# Altium footprint library BB.001.00.00.PcbLib: 93 footprints (part 3 of 6)
Each footprint in its own frame and in the unit in brackets; x right, y up, seen from the top. Pads: shape width x height; smd on the part's side, far side on the other; paste and mask are expansions set on the pad; w line width, h text height; cw(c..) or ccw(c..) is an arc to the next point about the centre after c.
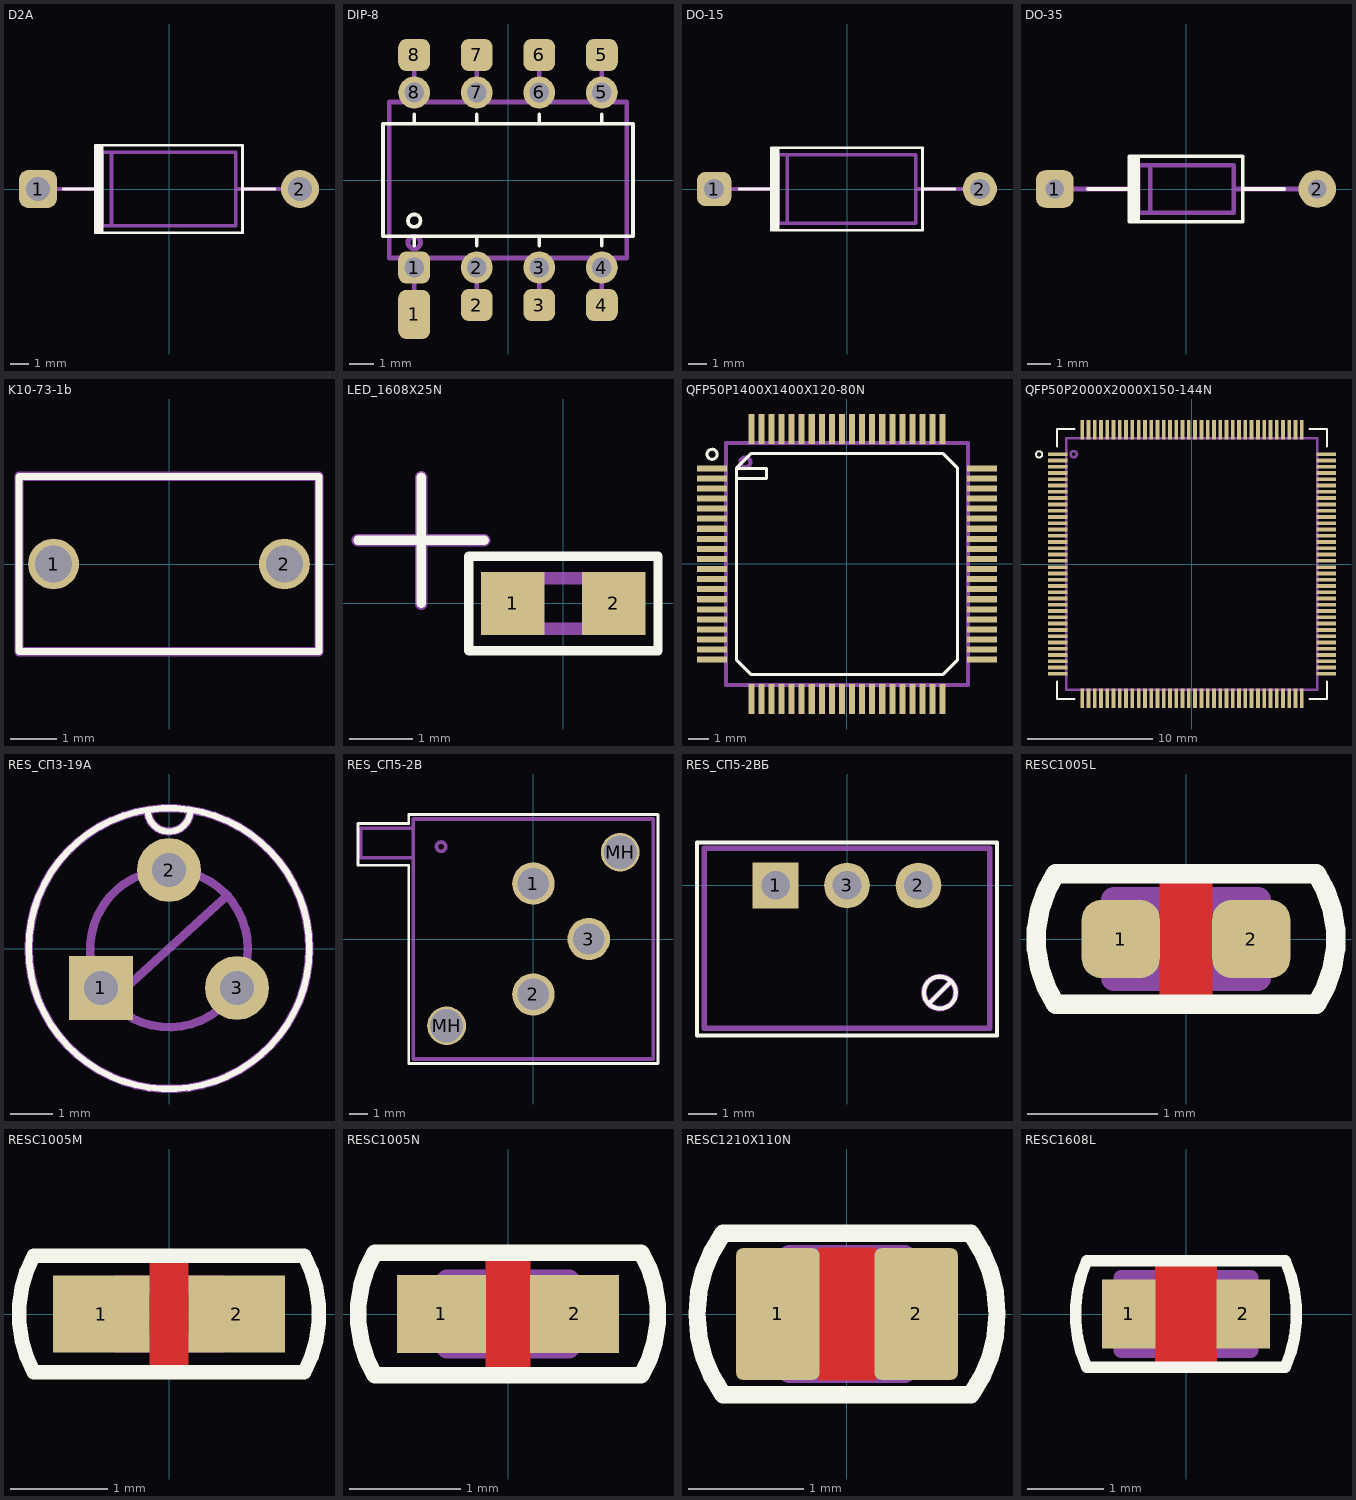
[diagram p2: the footprints below, top view; thin cyan lines are the x and y axes]

## D2A [mm]
height 6.1
pads (2):
  rrect50% 2.1x2.1 hole 1.3: 1(-7.239,0)
  round 2.1 hole 1.3: 2(7.239,0)
Top Overlay:
  rectangle: -4.064,-2.413 -3.683,2.413
  lines w0.15: -5.842,0 -4.064,0 ; -3.683,-2.413 -3.683,2.413 ; 4.064,0 5.842,0 ; -4.064,-2.413 -4.064,2.413 4.064,2.413 4.064,-2.413 -4.064,-2.413
TopAsy:
  lines w0.2: -7.239,0 -3.683,0 ; -3.175,-2.032 -3.175,2.032 ; 3.683,0 7.239,0 ; -3.683,-2.032 -3.683,2.032 3.683,2.032 3.683,-2.032 -3.683,-2.032

## DIP-8 [mm]
height 4.7
pads (16):
  rrect50% 1.3x2 all layers, no hole: 1(-3.81,-5.461)
  rrect50% 1.3x1.3 / inner rrect50% 1.3x1.3 / far side rrect50% 1.6x1.6 hole 0.8: 1(-3.81,-3.556)
  rrect50% 1.3x1.3 all layers, no hole: 2(-1.27,-5.08) 3(1.27,-5.08) 4(3.81,-5.08) 5(3.81,5.08) 6(1.27,5.08) 7(-1.27,5.08) 8(-3.81,5.08)
  round 1.3 / inner round 1.3 / far side round 1.6 hole 0.8: 2(-1.27,-3.556) 3(1.27,-3.556) 4(3.81,-3.556) 5(3.81,3.556) 6(1.27,3.556) 7(-1.27,3.556) 8(-3.81,3.556)
Top Overlay:
  circle w0.15: c-3.81,-1.651 r0.254
  lines w0.15: -3.81,-2.667 -3.81,-2.286 ; -3.81,2.286 -3.81,2.667 ; -1.27,-2.667 -1.27,-2.286 ; -1.27,2.286 -1.27,2.667 ; 1.27,-2.667 1.27,-2.286 ; 1.27,2.286 1.27,2.667 ; 3.81,-2.667 3.81,-2.286 ; 3.81,2.286 3.81,2.667 ; -5.08,-2.286 -5.08,2.286 5.08,2.286 5.08,-2.286 -5.08,-2.286
TopAsy:
  circle w0.2: c-3.81,-2.54 r0.254
  lines w0.2: -3.81,-4.826 -3.81,-3.175 ; -3.81,3.175 -3.81,4.826 ; -1.27,-4.826 -1.27,-3.175 ; -1.27,3.175 -1.27,4.826 ; 1.27,-4.826 1.27,-3.175 ; 1.27,3.175 1.27,4.826 ; 3.81,-4.826 3.81,-3.175 ; 3.81,3.175 3.81,4.826 ; -4.826,-3.175 4.826,-3.175 4.826,3.175 -4.826,3.175 -4.826,-3.175

## DO-15 [mm]
height 5.6
pads (2):
  rrect50% 1.9x1.9 hole 1.1: 1(-7.366,0)
  round 1.9 hole 1.1: 2(7.366,0)
Top Overlay:
  rectangle: -4.191,-2.286 -3.81,2.286
  lines w0.15: -5.969,0 -4.191,0 ; -3.81,-2.286 -3.81,2.286 ; 4.191,0 5.969,0 ; -4.191,-2.286 -4.191,2.286 4.191,2.286 4.191,-2.286 -4.191,-2.286
TopAsy:
  lines w0.2: -7.366,0 -3.81,0 ; -3.302,-1.905 -3.302,1.905 ; 3.81,0 7.366,0 ; -3.81,-1.905 -3.81,1.905 3.81,1.905 3.81,-1.905 -3.81,-1.905

## DO-35 [mm]
height 3.5
pads (2):
  rrect50% 1.6x1.6 hole 0.8: 1(-5.588,0)
  round 1.6 hole 0.8: 2(5.588,0)
Top Overlay:
  rectangle: -2.413,-1.397 -2.032,1.397
  lines w0.15: -4.191,0 -2.413,0 ; -2.032,-1.397 -2.032,1.397 ; 2.413,0 4.191,0 ; -2.413,-1.397 -2.413,1.397 2.413,1.397 2.413,-1.397 -2.413,-1.397
TopAsy:
  lines w0.2: -5.588,0 -2.032,0 ; -1.524,-1.016 -1.524,1.016 ; 2.032,0 5.588,0 ; -2.032,-1.016 -2.032,1.016 2.032,1.016 2.032,-1.016 -2.032,-1.016

## K10-73-1b [mm] "Керамический конденсатор"
height 8
pads (2):
  round 1.1 hole 0.8: 1(-2.5,0) 2(2.5,0)
Top Overlay:
  lines w0.15: -3.25,-1.9 3.25,-1.9 3.25,1.9 -3.25,1.9 -3.25,-1.9
TopAsy:
  lines w0.2: -3.25,-1.9 -3.25,1.9 3.25,1.9 3.25,-1.9 -3.25,-1.9
3D body "K10-73.STEP": height 8.01, standoff -4.99, extent -3.25,-1.9 3.25,1.9

## LED_1608X25N [mm] "Chip LED lamp, 2-Leads, Body 1,60x0,80mm, IPC Medium Density"
height 0.25
pads (2):
  rect 1x1 smd: 1(-0.8,0) 2(0.8,0)
Top Overlay:
  lines w0.15: -3.25,1 -1.25,1 ; -2.25,0 -2.25,2 ; -1.5,-0.75 -1.5,0.75 1.5,0.75 1.5,-0.75 -1.5,-0.75
TopAsy:
  lines w0.2: -3.25,1 -1.25,1 ; -2.25,0 -2.25,2 ; -0.8,-0.4 -0.8,0.4 0.8,0.4 0.8,-0.4 -0.8,-0.4
3D body "cled.STEP": height 0.62, standoff 0.02, extent -0.8,-0.4 0.8,0.4

## QFP50P1400X1400X120-80N [mm] "QFP, 80-Leads, Body 14,00x14,00mm, Pitch 0,50mm, IPC Medium Density"
height 1.2
pads (80):
  rect 1.5x0.3 smd mask+0.01: 1(-6.7,4.75) 2(-6.7,4.25) 3(-6.7,3.75) 4(-6.7,3.25) 5(-6.7,2.75) 6(-6.7,2.25) 7(-6.7,1.75) 8(-6.7,1.25) 9(-6.7,0.75) 10(-6.7,0.25) 11(-6.7,-0.25) 12(-6.7,-0.75) 13(-6.7,-1.25) 14(-6.7,-1.75) 15(-6.7,-2.25) 16(-6.7,-2.75) 17(-6.7,-3.25) 18(-6.7,-3.75) 19(-6.7,-4.25) 20(-6.7,-4.75) 41(6.7,-4.75) 42(6.7,-4.25) 43(6.7,-3.75) 44(6.7,-3.25) 45(6.7,-2.75) 46(6.7,-2.25) 47(6.7,-1.75) 48(6.7,-1.25) 49(6.7,-0.75) 50(6.7,-0.25) 51(6.7,0.25) 52(6.7,0.75) 53(6.7,1.25) 54(6.7,1.75) 55(6.7,2.25) 56(6.7,2.75) 57(6.7,3.25) 58(6.7,3.75) 59(6.7,4.25) 60(6.7,4.75)
  rect 0.3x1.5 smd mask+0.01: 21(-4.75,-6.7) 22(-4.25,-6.7) 23(-3.75,-6.7) 24(-3.25,-6.7) 25(-2.75,-6.7) 26(-2.25,-6.7) 27(-1.75,-6.7) 28(-1.25,-6.7) 29(-0.75,-6.7) 30(-0.25,-6.7) 31(0.25,-6.7) 32(0.75,-6.7) 33(1.25,-6.7) 34(1.75,-6.7) 35(2.25,-6.7) 36(2.75,-6.7) 37(3.25,-6.7) 38(3.75,-6.7) 39(4.25,-6.7) 40(4.75,-6.7) 61(4.75,6.7) 62(4.25,6.7) 63(3.75,6.7) 64(3.25,6.7) 65(2.75,6.7) 66(2.25,6.7) 67(1.75,6.7) 68(1.25,6.7) 69(0.75,6.7) 70(0.25,6.7) 71(-0.25,6.7) 72(-0.75,6.7) 73(-1.25,6.7) 74(-1.75,6.7) 75(-2.25,6.7) 76(-2.75,6.7) 77(-3.25,6.7) 78(-3.75,6.7) 79(-4.25,6.7) 80(-4.75,6.7)
Top Overlay:
  circle w0.15: c-6.7,5.45 r0.25
  lines w0.15: -5.5,4.25 -4,4.25 -4,4.75 -5.5,4.75 ; -5.5,4.75 -4.75,5.5 4.75,5.5 5.5,4.75 5.5,-4.75 4.75,-5.5 -4.75,-5.5 -5.5,-4.75 -5.5,4.75
TopAsy:
  circle w0.2: c-5.05,5.05 r0.25
  lines w0.2: -6,-6 6,-6 6,6 -6,6 -6,-6
Mechanical 3:
  circle w0.2: c-5.05,5.05 r0.25
  lines w0.2: -6,-6 -6,6 6,6 6,-6 -6,-6
3D body "User Library-TQFP-80.STEP": height 1.06, standoff 0, extent -7,-7 7,7

## QFP50P2000X2000X150-144N [mm] "Package: TQFP,L; body: 20x20x1,6mm"
height 1.6
pads (144):
  rect 1.55x0.3 smd mask+0.01: 1(-10.7,8.75) 2(-10.7,8.25) 3(-10.7,7.75) 4(-10.7,7.25) 5(-10.7,6.75) 6(-10.7,6.25) 7(-10.7,5.75) 8(-10.7,5.25) 9(-10.7,4.75) 10(-10.7,4.25) 11(-10.7,3.75) 12(-10.7,3.25) 13(-10.7,2.75) 14(-10.7,2.25) 15(-10.7,1.75) 16(-10.7,1.25) 17(-10.7,0.75) 18(-10.7,0.25) 19(-10.7,-0.25) 20(-10.7,-0.75) 21(-10.7,-1.25) 22(-10.7,-1.75) 23(-10.7,-2.25) 24(-10.7,-2.75) 25(-10.7,-3.25) 26(-10.7,-3.75) 27(-10.7,-4.25) 28(-10.7,-4.75) 29(-10.7,-5.25) 30(-10.7,-5.75) 31(-10.7,-6.25) 32(-10.7,-6.75) 33(-10.7,-7.25) 34(-10.7,-7.75) 35(-10.7,-8.25) 36(-10.7,-8.75) 73(10.7,-8.75) 74(10.7,-8.25) 75(10.7,-7.75) 76(10.7,-7.25) 77(10.7,-6.75) 78(10.7,-6.25) 79(10.7,-5.75) 80(10.7,-5.25) 81(10.7,-4.75) 82(10.7,-4.25) 83(10.7,-3.75) 84(10.7,-3.25) 85(10.7,-2.75) 86(10.7,-2.25) 87(10.7,-1.75) 88(10.7,-1.25) 89(10.7,-0.75) 90(10.7,-0.25) 91(10.7,0.25) 92(10.7,0.75) 93(10.7,1.25) 94(10.7,1.75) 95(10.7,2.25) 96(10.7,2.75) 97(10.7,3.25) 98(10.7,3.75) 99(10.7,4.25) 100(10.7,4.75) 101(10.7,5.25) 102(10.7,5.75) 103(10.7,6.25) 104(10.7,6.75) 105(10.7,7.25) 106(10.7,7.75) 107(10.7,8.25) 108(10.7,8.75)
  rect 0.3x1.55 smd mask+0.01: 37(-8.75,-10.7) 38(-8.25,-10.7) 39(-7.75,-10.7) 40(-7.25,-10.7) 41(-6.75,-10.7) 42(-6.25,-10.7) 43(-5.75,-10.7) 44(-5.25,-10.7) 45(-4.75,-10.7) 46(-4.25,-10.7) 47(-3.75,-10.7) 48(-3.25,-10.7) 49(-2.75,-10.7) 50(-2.25,-10.7) 51(-1.75,-10.7) 52(-1.25,-10.7) 53(-0.75,-10.7) 54(-0.25,-10.7) 55(0.25,-10.7) 56(0.75,-10.7) 57(1.25,-10.7) 58(1.75,-10.7) 59(2.25,-10.7) 60(2.75,-10.7) 61(3.25,-10.7) 62(3.75,-10.7) 63(4.25,-10.7) 64(4.75,-10.7) 65(5.25,-10.7) 66(5.75,-10.7) 67(6.25,-10.7) 68(6.75,-10.7) 69(7.25,-10.7) 70(7.75,-10.7) 71(8.25,-10.7) 72(8.75,-10.7) 109(8.75,10.7) 110(8.25,10.7) 111(7.75,10.7) 112(7.25,10.7) 113(6.75,10.7) 114(6.25,10.7) 115(5.75,10.7) 116(5.25,10.7) 117(4.75,10.7) 118(4.25,10.7) 119(3.75,10.7) 120(3.25,10.7) 121(2.75,10.7) 122(2.25,10.7) 123(1.75,10.7) 124(1.25,10.7) 125(0.75,10.7) 126(0.25,10.7) 127(-0.25,10.7) 128(-0.75,10.7) 129(-1.25,10.7) 130(-1.75,10.7) 131(-2.25,10.7) 132(-2.75,10.7) 133(-3.25,10.7) 134(-3.75,10.7) 135(-4.25,10.7) 136(-4.75,10.7) 137(-5.25,10.7) 138(-5.75,10.7) 139(-6.25,10.7) 140(-6.75,10.7) 141(-7.25,10.7) 142(-7.75,10.7) 143(-8.25,10.7) 144(-8.75,10.7)
Top Overlay:
  circle w0.15: c-12.178,8.731 r0.25
  lines w0.15: -10.75,-9.375 -10.75,-10.75 -9.375,-10.75 ; -10.75,9.375 -10.75,10.75 -9.375,10.75 ; 9.375,-10.75 10.75,-10.75 10.75,-9.375 ; 9.375,10.75 10.75,10.75 10.75,9.375
TopAsy:
  circle w0.2: c-9.428,8.75 r0.25
  lines w0.2: -10,-10 10,-10 10,10 -10,10 -10,-10
3D body "User Library-LQFP144-2.stp": height 1.6, standoff 0, extent -11.075,-11.075 11.075,11.075

## RES_CП3-19А [mm] "Переменный непроволочный подстроечный резистор d=6.3"
height 4.1
pads (3):
  rect 1.5x1.5 hole 0.8: 1(-1.6,-0.925)
  round 1.5 hole 0.8: 2(0,1.845) 3(1.6,-0.925)
Top Overlay:
  circle w0.15: c0,0 r3.3
  lines w0.15: -0.5,3.25 ccw(c0,3.25) 0.5,3.25
TopAsy:
  circle w0.2: c0,0 r1.85
  circle w0.2: c0,0 r3.3
  lines w0.2: -1.375,-1.25 1.375,1.25 ; -0.5,3.25 ccw(c0,3.25) 0.5,3.25
3D body "СП3-19А.stp": height 4.11, standoff -19.49, extent -3.15,-3.144 3.125,3.144

## RES_СП5-2В [mm] "РЕЗИСТОР ПЕРЕМЕННЫЙПРОВОЛОЧНЫЙ ПОДСТРОЕЧНЫЙ"
height 7.9
pads (5):
  round 2.3 hole 1.7: 1(0,3) 2(0,-3) 3(3,0)
  round 2.1 hole 1.8: MH(-4.7,-4.7) MH(4.7,4.7)
Top Overlay:
  lines w0.15: -9.5,4 -9.5,6.25 -6.75,6.25 -6.75,6.75 6.75,6.75 6.75,-6.75 -6.75,-6.75 -6.75,4 -9.5,4
TopAsy:
  circle w0.2: c-5,5 r0.25
  circle w0.2: c-4.7,-4.7 r0.9
  circle w0.2: c4.7,4.7 r0.9
  lines w0.2: -6.5,4.4 -9.35,4.4 -9.35,6 -6.5,6 ; -6.5,-6.5 6.5,-6.5 6.5,6.5 -6.5,6.5 -6.5,-6.5
3D body "СП5-2В.stp": height 7.91, standoff -4.99, extent -9.35,-6.5 6.5,6.5

## RES_СП5-2ВБ [mm] "РЕЗИСТОР ПЕРЕМЕННЫЙПРОВОЛОЧНЫЙ ПОДСТРОЕЧНЫЙ"
height 12
pads (3):
  rect 1.6x1.6 hole 1: 1(-2.5,0)
  round 1.6 hole 1: 2(2.5,0) 3(0,0)
Top Overlay:
  circle w0.15: c3.25,-3.75 r0.559
  lines w0.15: 2.9,-4.1 3.6,-3.4 ; -5.25,-5.25 -5.25,1.5 5.25,1.5 5.25,-5.25 -5.25,-5.25
TopAsy:
  circle w0.2: c3.25,-3.75 r0.559
  lines w0.2: 2.9,-4.1 3.6,-3.4 ; -5,-5 -5,1.3 5,1.3 5,-5 -5,-5
3D body "СП5-2ВБ.STEP": height 11.41, standoff -3.99, extent -5.003,-5 5.003,1.3

## RESC1005L [mm] "Chip Resistor, Body 1.1x0.5mm, IPC High Density"
height 0.4
pads (2):
  rrect50% 0.6x0.6 smd: 1(-0.5,0) 2(0.5,0)
Top Layer:
  pour cut-out: -0.2,0.5 -0.2,-0.5 0.2,-0.5 0.2,0.5
Top Overlay:
  lines w0.15: -1,-0.5 cw(c-0.242,0) -1,0.5 1,0.5 cw(c0.242,0) 1,-0.5 -1,-0.5
TopAsy:
  lines w0.2: -0.55,-0.3 -0.55,0.3 0.55,0.3 0.55,-0.3 -0.55,-0.3
3D body: height 0.4, standoff 0, extent -0.55,-0.3 0.55,0.3

## RESC1005M [mm] "Chip Resistor, Body 1.1x0.5mm, IPC Low Density"
height 0.4
pads (2):
  rect 1x0.8 smd: 1(-0.7,0) 2(0.7,0)
Top Layer:
  pour cut-out: -0.2,0.6 -0.2,-0.6 0.2,-0.6 0.2,0.6
Top Overlay:
  lines w0.15: -1.4,-0.6 cw(c-0.275,0) -1.4,0.6 1.4,0.6 cw(c0.275,0) 1.4,-0.6 -1.4,-0.6
TopAsy:
  lines w0.2: -0.55,-0.3 0.55,-0.3 0.55,0.3 -0.55,0.3 -0.55,-0.3
3D body: height 0.4, standoff 0, extent -0.55,-0.3 0.55,0.3

## RESC1005N [mm] "Chip Resistor, Body 1.1x0.5mm, IPC Medium Density"
height 0.4
pads (2):
  rect 0.8x0.7 smd: 1(-0.6,0) 2(0.6,0)
Top Layer:
  pour cut-out: -0.2,0.55 -0.2,-0.55 0.2,-0.55 0.2,0.55
Top Overlay:
  lines w0.15: -1.2,-0.55 cw(c-0.267,0) -1.2,0.55 1.2,0.55 cw(c0.267,0) 1.2,-0.55 -1.2,-0.55
TopAsy:
  lines w0.2: -0.55,-0.3 -0.55,0.3 0.55,0.3 0.55,-0.3 -0.55,-0.3
3D body: height 0.4, standoff 0, extent -0.55,-0.3 0.55,0.3

## RESC1210X110N [mm] "SMD, Body: 120x100x110; Резистор высокочастотный неизолированный безвыводной"
height 1.1
pads (2):
  rrect15% 0.72x1.14 smd paste+0: 1(-0.6,0) 2(0.6,0)
Top Layer:
  pour cut-out: -0.25,0.575 0.25,0.575 0.25,-0.575 -0.25,-0.575
Top Overlay:
  lines w0.15: -1.075,-0.7 cw(c-0.099,0) -1.075,0.7 1.075,0.7 cw(c0.099,0) 1.075,-0.7 -1.075,-0.7
TopAsy:
  lines w0.2: -0.5,-0.5 -0.5,0.5 0.5,0.5 0.5,-0.5 -0.5,-0.5
3D body "С6-9.STEP": height 1.51, standoff 0.01, extent -0.5,-0.5 0.5,0.5

## RESC1608L [mm] "Chip Resistor, Body 1.6x0.8mm, IPC High Density"
height 0.6
pads (2):
  rect 0.7x0.9 smd: 1(-0.75,0) 2(0.75,0)
Top Layer:
  pour cut-out: -0.4,0.7 -0.4,-0.7 0.4,-0.7 0.4,0.7
Top Overlay:
  lines w0.15: -1.3,-0.7 cw(c0.258,0) -1.3,0.7 1.3,0.7 cw(c-0.258,0) 1.3,-0.7 -1.3,-0.7
TopAsy:
  lines w0.2: -0.85,-0.475 -0.85,0.475 0.85,0.475 0.85,-0.475 -0.85,-0.475
3D body: height 0.6, standoff 0, extent -0.85,-0.475 0.85,0.475